# EAGLE library part M24M02-A125 (library project121)
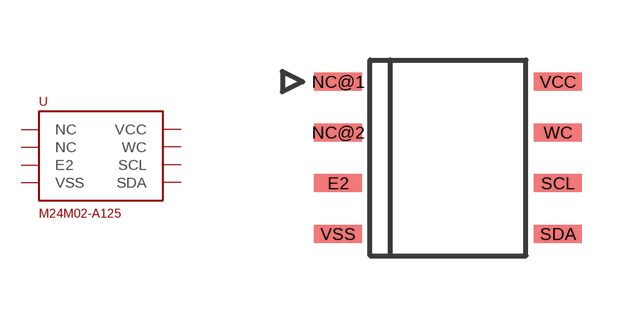
[diagram p4: symbol with the pads of M24M02-A124; footprint M24M02-A124]

Designator prefix U

## M24M02-A125  [M24M02-A124]
E2  E2  in
NC@1  NC  nc
NC@2  NC  nc
SCL  SCL  in
SDA  SDA
VCC  VCC  pwr
VSS  VSS  pwr
WC  WC

## Footprint M24M02-A124 (pad centres in mm)
smd 1.2 x 0.45: E2 0,1.27; NC@1 0,3.81; NC@2 0,2.54; SCL 5.5,1.27; SDA 5.5,0; VCC 5.5,3.81; VSS 0,0; WC 5.5,2.54